# Altium integrated library Wuerth Elektronik SMD Power Choke.IntLib: 844 symbols (part 5 of 9)
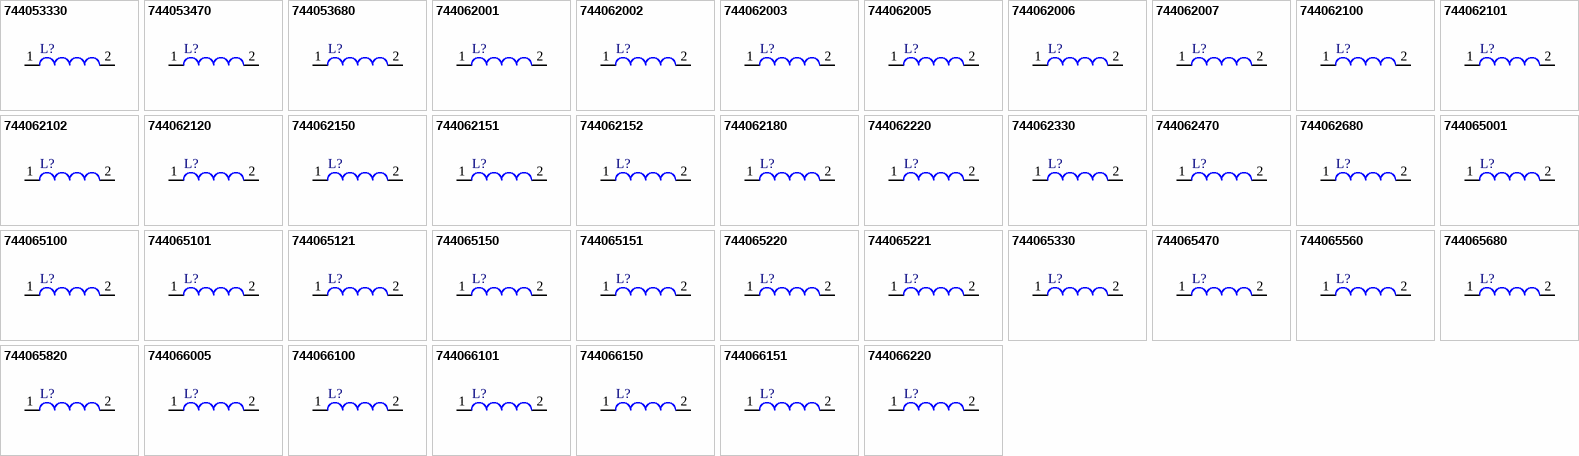
[diagram p26: symbols 744053330 to 744066220]

## 744065150
designator L?
SMD Shielded Tiny Power Inductor WE-TPC, L = 15.0 µH; Inductance: 15.0 µH; DatasheetVersion: ver 3, Nov-2008; PackageVersion: 2008; PackageReference: WE-TPC-1028-XL; PackageDescription: SMD Inductor, 2-Leads, Body 10.0 x 10.0 mm; ComponentLink1Description: Manufacturer URL; ComponentLink1URL: http://www.we-online.com; ComponentLink2Description: Datasheet; ComponentLink2URL: http://www.we-online.de/katalog/media/pdf/744065150.pdf
footprint WE-TPC-1028-XL (SMD Inductor, 2-Leads, Body 10.0x10.0x3.1 mm)
pins: 1, 2

## 744065151
designator L?
SMD Shielded Tiny Power Inductor WE-TPC, L = 150 µH; Inductance: 150 µH; DatasheetVersion: ver 3, Nov-2008; PackageVersion: 2008; PackageReference: WE-TPC-1028-XL; PackageDescription: SMD Inductor, 2-Leads, Body 10.0 x 10.0 mm; ComponentLink1Description: Manufacturer URL; ComponentLink1URL: http://www.we-online.com; ComponentLink2Description: Datasheet; ComponentLink2URL: http://www.we-online.de/katalog/media/pdf/744065151.pdf
footprint WE-TPC-1028-XL (SMD Inductor, 2-Leads, Body 10.0x10.0x3.1 mm)
pins: 1, 2

## 744065220
designator L?
SMD Shielded Tiny Power Inductor WE-TPC, L = 22.0 µH; Inductance: 22.0 µH; DatasheetVersion: ver 3, Nov-2008; PackageVersion: 2008; PackageReference: WE-TPC-1028-XL; PackageDescription: SMD Inductor, 2-Leads, Body 10.0 x 10.0 mm; ComponentLink1Description: Manufacturer URL; ComponentLink1URL: http://www.we-online.com; ComponentLink2Description: Datasheet; ComponentLink2URL: http://www.we-online.de/katalog/media/pdf/744065220.pdf
footprint WE-TPC-1028-XL (SMD Inductor, 2-Leads, Body 10.0x10.0x3.1 mm)
pins: 1, 2

## 744065221
designator L?
SMD Shielded Tiny Power Inductor WE-TPC, L = 220 µH; Inductance: 220 µH; DatasheetVersion: ver 3, Nov-2008; PackageVersion: 2008; PackageReference: WE-TPC-1028-XL; PackageDescription: SMD Inductor, 2-Leads, Body 10.0 x 10.0 mm; ComponentLink1Description: Manufacturer URL; ComponentLink1URL: http://www.we-online.com; ComponentLink2Description: Datasheet; ComponentLink2URL: http://www.we-online.de/katalog/media/pdf/744065221.pdf
footprint WE-TPC-1028-XL (SMD Inductor, 2-Leads, Body 10.0x10.0x3.1 mm)
pins: 1, 2

## 744065330
designator L?
SMD Shielded Tiny Power Inductor WE-TPC, L = 33.0 µH; Inductance: 33.0 µH; DatasheetVersion: ver 3, Nov-2008; PackageVersion: 2008; PackageReference: WE-TPC-1028-XL; PackageDescription: SMD Inductor, 2-Leads, Body 10.0 x 10.0 mm; ComponentLink1Description: Manufacturer URL; ComponentLink1URL: http://www.we-online.com; ComponentLink2Description: Datasheet; ComponentLink2URL: http://www.we-online.de/katalog/media/pdf/744065330.pdf
footprint WE-TPC-1028-XL (SMD Inductor, 2-Leads, Body 10.0x10.0x3.1 mm)
pins: 1, 2

## 744065470
designator L?
SMD Shielded Tiny Power Inductor WE-TPC, L = 47.0 µH; Inductance: 47.0 µH; DatasheetVersion: ver 3, Nov-2008; PackageVersion: 2008; PackageReference: WE-TPC-1028-XL; PackageDescription: SMD Inductor, 2-Leads, Body 10.0 x 10.0 mm; ComponentLink1Description: Manufacturer URL; ComponentLink1URL: http://www.we-online.com; ComponentLink2Description: Datasheet; ComponentLink2URL: http://www.we-online.de/katalog/media/pdf/744065470.pdf
footprint WE-TPC-1028-XL (SMD Inductor, 2-Leads, Body 10.0x10.0x3.1 mm)
pins: 1, 2

## 744065560
designator L?
SMD Shielded Tiny Power Inductor WE-TPC, L = 56.0 µH; Inductance: 56.0 µH; DatasheetVersion: ver 3, Nov-2008; PackageVersion: 2008; PackageReference: WE-TPC-1028-XL; PackageDescription: SMD Inductor, 2-Leads, Body 10.0 x 10.0 mm; ComponentLink1Description: Manufacturer URL; ComponentLink1URL: http://www.we-online.com; ComponentLink2Description: Datasheet; ComponentLink2URL: http://www.we-online.de/katalog/media/pdf/744065560.pdf
footprint WE-TPC-1028-XL (SMD Inductor, 2-Leads, Body 10.0x10.0x3.1 mm)
pins: 1, 2

## 744065680
designator L?
SMD Shielded Tiny Power Inductor WE-TPC, L = 68.0 µH; Inductance: 68.0 µH; DatasheetVersion: ver 3, Nov-2008; PackageVersion: 2008; PackageReference: WE-TPC-1028-XL; PackageDescription: SMD Inductor, 2-Leads, Body 10.0 x 10.0 mm; ComponentLink1Description: Manufacturer URL; ComponentLink1URL: http://www.we-online.com; ComponentLink2Description: Datasheet; ComponentLink2URL: http://www.we-online.de/katalog/media/pdf/744065680.pdf
footprint WE-TPC-1028-XL (SMD Inductor, 2-Leads, Body 10.0x10.0x3.1 mm)
pins: 1, 2

## 744065820
designator L?
SMD Shielded Tiny Power Inductor WE-TPC, L = 82.0 µH; Inductance: 82.0 µH; DatasheetVersion: ver 3, Nov-2008; PackageVersion: 2008; PackageReference: WE-TPC-1028-XL; PackageDescription: SMD Inductor, 2-Leads, Body 10.0 x 10.0 mm; ComponentLink1Description: Manufacturer URL; ComponentLink1URL: http://www.we-online.com; ComponentLink2Description: Datasheet; ComponentLink2URL: http://www.we-online.de/katalog/media/pdf/744065820.pdf
footprint WE-TPC-1028-XL (SMD Inductor, 2-Leads, Body 10.0x10.0x3.1 mm)
pins: 1, 2

## 744066005
designator L?
SMD Shielded Tiny Power Inductor WE-TPC, L = 5.00 µH; Inductance: 5.00 µH; DatasheetVersion: ver 4, Nov-2008; PackageVersion: 2008; PackageReference: WE-TPC-1038-XLH; PackageDescription: SMD Inductor, 2-Leads, Body 10.0 x 10.0 mm; ComponentLink1Description: Manufacturer URL; ComponentLink1URL: http://www.we-online.com; ComponentLink2Description: Datasheet; ComponentLink2URL: http://www.we-online.de/katalog/media/pdf/744066005.pdf
footprint WE-TPC-1038-XLH (SMD Inductor, 2-Leads, Body 10.0x10.0x4.1 mm)
pins: 1, 2

## 744066100
designator L?
SMD Shielded Tiny Power Inductor WE-TPC, L = 10.0 µH; Inductance: 10.0 µH; DatasheetVersion: ver 4, Nov-2008; PackageVersion: 2008; PackageReference: WE-TPC-1038-XLH; PackageDescription: SMD Inductor, 2-Leads, Body 10.0 x 10.0 mm; ComponentLink1Description: Manufacturer URL; ComponentLink1URL: http://www.we-online.com; ComponentLink2Description: Datasheet; ComponentLink2URL: http://www.we-online.de/katalog/media/pdf/744066100.pdf
footprint WE-TPC-1038-XLH (SMD Inductor, 2-Leads, Body 10.0x10.0x4.1 mm)
pins: 1, 2

## 744066101
designator L?
SMD Shielded Tiny Power Inductor WE-TPC, L = 100 µH; Inductance: 100 µH; DatasheetVersion: ver 4, Nov-2008; PackageVersion: 2008; PackageReference: WE-TPC-1038-XLH; PackageDescription: SMD Inductor, 2-Leads, Body 10.0 x 10.0 mm; ComponentLink1Description: Manufacturer URL; ComponentLink1URL: http://www.we-online.com; ComponentLink2Description: Datasheet; ComponentLink2URL: http://www.we-online.de/katalog/media/pdf/744066101.pdf
footprint WE-TPC-1038-XLH (SMD Inductor, 2-Leads, Body 10.0x10.0x4.1 mm)
pins: 1, 2

## 744066150
designator L?
SMD Shielded Tiny Power Inductor WE-TPC, L = 15.0 µH; Inductance: 15.0 µH; DatasheetVersion: ver 4, Nov-2008; PackageVersion: 2008; PackageReference: WE-TPC-1038-XLH; PackageDescription: SMD Inductor, 2-Leads, Body 10.0 x 10.0 mm; ComponentLink1Description: Manufacturer URL; ComponentLink1URL: http://www.we-online.com; ComponentLink2Description: Datasheet; ComponentLink2URL: http://www.we-online.de/katalog/media/pdf/744066150.pdf
footprint WE-TPC-1038-XLH (SMD Inductor, 2-Leads, Body 10.0x10.0x4.1 mm)
pins: 1, 2

## 744066151
designator L?
SMD Shielded Tiny Power Inductor WE-TPC, L = 150 µH; Inductance: 150 µH; DatasheetVersion: ver 4, Nov-2008; PackageVersion: 2008; PackageReference: WE-TPC-1038-XLH; PackageDescription: SMD Inductor, 2-Leads, Body 10.0 x 10.0 mm; ComponentLink1Description: Manufacturer URL; ComponentLink1URL: http://www.we-online.com; ComponentLink2Description: Datasheet; ComponentLink2URL: http://www.we-online.de/katalog/media/pdf/744066151.pdf
footprint WE-TPC-1038-XLH (SMD Inductor, 2-Leads, Body 10.0x10.0x4.1 mm)
pins: 1, 2

## 744066220
designator L?
SMD Shielded Tiny Power Inductor WE-TPC, L = 22.0 µH; Inductance: 22.0 µH; DatasheetVersion: ver 4, Nov-2008; PackageVersion: 2008; PackageReference: WE-TPC-1038-XLH; PackageDescription: SMD Inductor, 2-Leads, Body 10.0 x 10.0 mm; ComponentLink1Description: Manufacturer URL; ComponentLink1URL: http://www.we-online.com; ComponentLink2Description: Datasheet; ComponentLink2URL: http://www.we-online.de/katalog/media/pdf/744066220.pdf
footprint WE-TPC-1038-XLH (SMD Inductor, 2-Leads, Body 10.0x10.0x4.1 mm)
pins: 1, 2

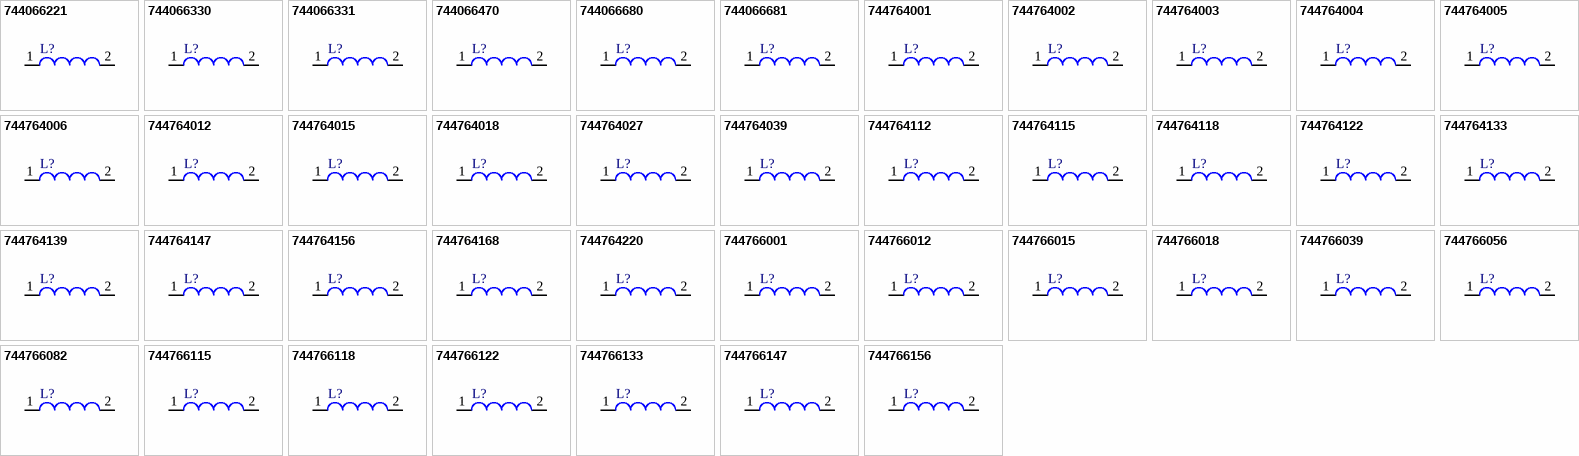
[diagram p10: symbols 744066221 to 744766156]

## 744066221
designator L?
SMD Shielded Tiny Power Inductor WE-TPC, L = 220 µH; Inductance: 220 µH; DatasheetVersion: ver 4, Nov-2008; PackageVersion: 2008; PackageReference: WE-TPC-1038-XLH; PackageDescription: SMD Inductor, 2-Leads, Body 10.0 x 10.0 mm; ComponentLink1Description: Manufacturer URL; ComponentLink1URL: http://www.we-online.com; ComponentLink2Description: Datasheet; ComponentLink2URL: http://www.we-online.de/katalog/media/pdf/744066221.pdf
footprint WE-TPC-1038-XLH (SMD Inductor, 2-Leads, Body 10.0x10.0x4.1 mm)
pins: 1, 2

## 744066330
designator L?
SMD Shielded Tiny Power Inductor WE-TPC, L = 33.0 µH; Inductance: 33.0 µH; DatasheetVersion: ver 4, Nov-2008; PackageVersion: 2008; PackageReference: WE-TPC-1038-XLH; PackageDescription: SMD Inductor, 2-Leads, Body 10.0 x 10.0 mm; ComponentLink1Description: Manufacturer URL; ComponentLink1URL: http://www.we-online.com; ComponentLink2Description: Datasheet; ComponentLink2URL: http://www.we-online.de/katalog/media/pdf/744066330.pdf
footprint WE-TPC-1038-XLH (SMD Inductor, 2-Leads, Body 10.0x10.0x4.1 mm)
pins: 1, 2

## 744066331
designator L?
SMD Shielded Tiny Power Inductor WE-TPC, L = 330 µH; Inductance: 330 µH; DatasheetVersion: ver 4, Nov-2008; PackageVersion: 2008; PackageReference: WE-TPC-1038-XLH; PackageDescription: SMD Inductor, 2-Leads, Body 10.0 x 10.0 mm; ComponentLink1Description: Manufacturer URL; ComponentLink1URL: http://www.we-online.com; ComponentLink2Description: Datasheet; ComponentLink2URL: http://www.we-online.de/katalog/media/pdf/744066331.pdf
footprint WE-TPC-1038-XLH (SMD Inductor, 2-Leads, Body 10.0x10.0x4.1 mm)
pins: 1, 2

## 744066470
designator L?
SMD Shielded Tiny Power Inductor WE-TPC, L = 47.0 µH; Inductance: 47.0 µH; DatasheetVersion: ver 4, Nov-2008; PackageVersion: 2008; PackageReference: WE-TPC-1038-XLH; PackageDescription: SMD Inductor, 2-Leads, Body 10.0 x 10.0 mm; ComponentLink1Description: Manufacturer URL; ComponentLink1URL: http://www.we-online.com; ComponentLink2Description: Datasheet; ComponentLink2URL: http://www.we-online.de/katalog/media/pdf/744066470.pdf
footprint WE-TPC-1038-XLH (SMD Inductor, 2-Leads, Body 10.0x10.0x4.1 mm)
pins: 1, 2

## 744066680
designator L?
SMD Shielded Tiny Power Inductor WE-TPC, L = 68.0 µH; Inductance: 68.0 µH; DatasheetVersion: ver 4, Nov-2008; PackageVersion: 2008; PackageReference: WE-TPC-1038-XLH; PackageDescription: SMD Inductor, 2-Leads, Body 10.0 x 10.0 mm; ComponentLink1Description: Manufacturer URL; ComponentLink1URL: http://www.we-online.com; ComponentLink2Description: Datasheet; ComponentLink2URL: http://www.we-online.de/katalog/media/pdf/744066680.pdf
footprint WE-TPC-1038-XLH (SMD Inductor, 2-Leads, Body 10.0x10.0x4.1 mm)
pins: 1, 2

## 744066681
designator L?
SMD Shielded Tiny Power Inductor WE-TPC, L = 680 µH; Inductance: 680 µH; DatasheetVersion: ver 4, Nov-2008; PackageVersion: 2008; PackageReference: WE-TPC-1038-XLH; PackageDescription: SMD Inductor, 2-Leads, Body 10.0 x 10.0 mm; ComponentLink1Description: Manufacturer URL; ComponentLink1URL: http://www.we-online.com; ComponentLink2Description: Datasheet; ComponentLink2URL: http://www.we-online.de/katalog/media/pdf/744066681.pdf
footprint WE-TPC-1038-XLH (SMD Inductor, 2-Leads, Body 10.0x10.0x4.1 mm)
pins: 1, 2

## 744764001
designator L?
SMD Wire Wound Inductor WE-GF, L = 0.10 µH; Inductance: 0.10 µH; DatasheetVersion: ver 4, Oct-2004; PackageVersion: 2004; PackageReference: WE-GF-M; PackageDescription: Molded Inductor, 2-Leads, Body 2.9 x 2.5 mm; ComponentLink1Description: Manufacturer URL; ComponentLink1URL: http://www.we-online.com; ComponentLink2Description: Datasheet; ComponentLink2URL: http://www.we-online.de/katalog/media/pdf/744764001.pdf
footprint WE-GF-M (Molded Inductor, 2-Leads, Body 2.9x2.5x2.4 mm)
pins: 1, 2

## 744764002
designator L?
SMD Wire Wound Inductor WE-GF, L = 0.22 µH; Inductance: 0.22 µH; DatasheetVersion: ver 4, Oct-2004; PackageVersion: 2004; PackageReference: WE-GF-M; PackageDescription: Molded Inductor, 2-Leads, Body 2.9 x 2.5 mm; ComponentLink1Description: Manufacturer URL; ComponentLink1URL: http://www.we-online.com; ComponentLink2Description: Datasheet; ComponentLink2URL: http://www.we-online.de/katalog/media/pdf/744764002.pdf
footprint WE-GF-M (Molded Inductor, 2-Leads, Body 2.9x2.5x2.4 mm)
pins: 1, 2

## 744764003
designator L?
SMD Wire Wound Inductor WE-GF, L = 0.39 µH; Inductance: 0.39 µH; DatasheetVersion: ver 4, Oct-2004; PackageVersion: 2004; PackageReference: WE-GF-M; PackageDescription: Molded Inductor, 2-Leads, Body 2.9 x 2.5 mm; ComponentLink1Description: Manufacturer URL; ComponentLink1URL: http://www.we-online.com; ComponentLink2Description: Datasheet; ComponentLink2URL: http://www.we-online.de/katalog/media/pdf/744764003.pdf
footprint WE-GF-M (Molded Inductor, 2-Leads, Body 2.9x2.5x2.4 mm)
pins: 1, 2

## 744764004
designator L?
SMD Wire Wound Inductor WE-GF, L = 0.47 µH; Inductance: 0.47 µH; DatasheetVersion: ver 4, Oct-2004; PackageVersion: 2004; PackageReference: WE-GF-M; PackageDescription: Molded Inductor, 2-Leads, Body 2.9 x 2.5 mm; ComponentLink1Description: Manufacturer URL; ComponentLink1URL: http://www.we-online.com; ComponentLink2Description: Datasheet; ComponentLink2URL: http://www.we-online.de/katalog/media/pdf/744764004.pdf
footprint WE-GF-M (Molded Inductor, 2-Leads, Body 2.9x2.5x2.4 mm)
pins: 1, 2

## 744764005
designator L?
SMD Wire Wound Inductor WE-GF, L = 0.56 µH; Inductance: 0.56 µH; DatasheetVersion: ver 4, Oct-2004; PackageVersion: 2004; PackageReference: WE-GF-M; PackageDescription: Molded Inductor, 2-Leads, Body 2.9 x 2.5 mm; ComponentLink1Description: Manufacturer URL; ComponentLink1URL: http://www.we-online.com; ComponentLink2Description: Datasheet; ComponentLink2URL: http://www.we-online.de/katalog/media/pdf/744764005.pdf
footprint WE-GF-M (Molded Inductor, 2-Leads, Body 2.9x2.5x2.4 mm)
pins: 1, 2

## 744764006
designator L?
SMD Wire Wound Inductor WE-GF, L = 0.68 µH; Inductance: 0.68 µH; DatasheetVersion: ver 4, Oct-2004; PackageVersion: 2004; PackageReference: WE-GF-M; PackageDescription: Molded Inductor, 2-Leads, Body 2.9 x 2.5 mm; ComponentLink1Description: Manufacturer URL; ComponentLink1URL: http://www.we-online.com; ComponentLink2Description: Datasheet; ComponentLink2URL: http://www.we-online.de/katalog/media/pdf/744764006.pdf
footprint WE-GF-M (Molded Inductor, 2-Leads, Body 2.9x2.5x2.4 mm)
pins: 1, 2

## 744764012
designator L?
SMD Wire Wound Inductor WE-GF, L = 1.20 µH; Inductance: 1.20µH; DatasheetVersion: ver 4, Oct-2004; PackageVersion: 2004; PackageReference: WE-GF-M; PackageDescription: Molded Inductor, 2-Leads, Body 2.9 x 2.5 mm; ComponentLink1Description: Manufacturer URL; ComponentLink1URL: http://www.we-online.com; ComponentLink2Description: Datasheet; ComponentLink2URL: http://www.we-online.de/katalog/media/pdf/744764012.pdf
footprint WE-GF-M (Molded Inductor, 2-Leads, Body 2.9x2.5x2.4 mm)
pins: 1, 2

## 744764015
designator L?
SMD Wire Wound Inductor WE-GF, L = 1.50 µH; Inductance: 1.50 µH; DatasheetVersion: ver 4, Oct-2004; PackageVersion: 2004; PackageReference: WE-GF-M; PackageDescription: Molded Inductor, 2-Leads, Body 2.9 x 2.5 mm; ComponentLink1Description: Manufacturer URL; ComponentLink1URL: http://www.we-online.com; ComponentLink2Description: Datasheet; ComponentLink2URL: http://www.we-online.de/katalog/media/pdf/744764015.pdf
footprint WE-GF-M (Molded Inductor, 2-Leads, Body 2.9x2.5x2.4 mm)
pins: 1, 2

## 744764018
designator L?
SMD Wire Wound Inductor WE-GF, L = 1.80 µH; Inductance: 1.80 µH; DatasheetVersion: ver 4, Oct-2004; PackageVersion: 2004; PackageReference: WE-GF-M; PackageDescription: Molded Inductor, 2-Leads, Body 2.9 x 2.5 mm; ComponentLink1Description: Manufacturer URL; ComponentLink1URL: http://www.we-online.com; ComponentLink2Description: Datasheet; ComponentLink2URL: http://www.we-online.de/katalog/media/pdf/744764018.pdf
footprint WE-GF-M (Molded Inductor, 2-Leads, Body 2.9x2.5x2.4 mm)
pins: 1, 2

## 744764027
designator L?
SMD Wire Wound Inductor WE-GF, L = 2.70 µH; Inductance: 2.70 µH; DatasheetVersion: ver 4, Oct-2004; PackageVersion: 2004; PackageReference: WE-GF-M; PackageDescription: Molded Inductor, 2-Leads, Body 2.9 x 2.5 mm; ComponentLink1Description: Manufacturer URL; ComponentLink1URL: http://www.we-online.com; ComponentLink2Description: Datasheet; ComponentLink2URL: http://www.we-online.de/katalog/media/pdf/744764027.pdf
footprint WE-GF-M (Molded Inductor, 2-Leads, Body 2.9x2.5x2.4 mm)
pins: 1, 2

## 744764039
designator L?
SMD Wire Wound Inductor WE-GF, L = 3.90 µH; Inductance: 3.90 µH; DatasheetVersion: ver 4, Oct-2004; PackageVersion: 2004; PackageReference: WE-GF-M; PackageDescription: Molded Inductor, 2-Leads, Body 2.9 x 2.5 mm; ComponentLink1Description: Manufacturer URL; ComponentLink1URL: http://www.we-online.com; ComponentLink2Description: Datasheet; ComponentLink2URL: http://www.we-online.de/katalog/media/pdf/744764039.pdf
footprint WE-GF-M (Molded Inductor, 2-Leads, Body 2.9x2.5x2.4 mm)
pins: 1, 2

## 744764112
designator L?
SMD Wire Wound Inductor WE-GF, L = 12.00 µH; DatasheetVersion: ver 4, Oct-2004; PackageVersion: 2004; PackageReference: WE-GF-M; PackageDescription: Molded Inductor, 2-Leads, Body 2.9 x 2.5 mm; Inductance: 12.00 µH; ComponentLink1Description: Manufacturer URL; ComponentLink1URL: http://www.we-online.com; ComponentLink2Description: Datasheet; ComponentLink2URL: http://www.we-online.de/katalog/media/pdf/744764112.pdf
footprint WE-GF-M (Molded Inductor, 2-Leads, Body 2.9x2.5x2.4 mm)
pins: 1, 2

## 744764115
designator L?
SMD Wire Wound Inductor WE-GF, L = 15.00 µH; DatasheetVersion: ver 4, Oct-2004; PackageVersion: 2004; PackageReference: WE-GF-M; PackageDescription: Molded Inductor, 2-Leads, Body 2.9 x 2.5 mm; Inductance: 15.00 µH; ComponentLink1Description: Manufacturer URL; ComponentLink1URL: http://www.we-online.com; ComponentLink2Description: Datasheet; ComponentLink2URL: http://www.we-online.de/katalog/media/pdf/744764115.pdf
footprint WE-GF-M (Molded Inductor, 2-Leads, Body 2.9x2.5x2.4 mm)
pins: 1, 2

## 744764118
designator L?
SMD Wire Wound Inductor WE-GF, L = 18.00 µH; DatasheetVersion: ver 4, Oct-2004; PackageVersion: 2004; PackageReference: WE-GF-M; PackageDescription: Molded Inductor, 2-Leads, Body 2.9 x 2.5 mm; Inductance: 18.00 µH; ComponentLink1Description: Manufacturer URL; ComponentLink1URL: http://www.we-online.com; ComponentLink2Description: Datasheet; ComponentLink2URL: http://www.we-online.de/katalog/media/pdf/744764118.pdf
footprint WE-GF-M (Molded Inductor, 2-Leads, Body 2.9x2.5x2.4 mm)
pins: 1, 2

## 744764122
designator L?
SMD Wire Wound Inductor WE-GF, L = 22.00 µH; DatasheetVersion: ver 4, Oct-2004; PackageVersion: 2004; PackageReference: WE-GF-M; PackageDescription: Molded Inductor, 2-Leads, Body 2.9 x 2.5 mm; Inductance: 22.00 µH; ComponentLink1Description: Manufacturer URL; ComponentLink1URL: http://www.we-online.com; ComponentLink2Description: Datasheet; ComponentLink2URL: http://www.we-online.de/katalog/media/pdf/744764122.pdf
footprint WE-GF-M (Molded Inductor, 2-Leads, Body 2.9x2.5x2.4 mm)
pins: 1, 2

## 744764133
designator L?
SMD Wire Wound Inductor WE-GF, L = 33.00 µH; DatasheetVersion: ver 4, Oct-2004; PackageVersion: 2004; PackageReference: WE-GF-M; PackageDescription: Molded Inductor, 2-Leads, Body 2.9 x 2.5 mm; Inductance: 33.00 µH; ComponentLink1Description: Manufacturer URL; ComponentLink1URL: http://www.we-online.com; ComponentLink2Description: Datasheet; ComponentLink2URL: http://www.we-online.de/katalog/media/pdf/744764133.pdf
footprint WE-GF-M (Molded Inductor, 2-Leads, Body 2.9x2.5x2.4 mm)
pins: 1, 2

## 744764139
designator L?
SMD Wire Wound Inductor WE-GF, L = 39.00 µH; DatasheetVersion: ver 4, Oct-2004; PackageVersion: 2004; PackageReference: WE-GF-M; PackageDescription: Molded Inductor, 2-Leads, Body 2.9 x 2.5 mm; Inductance: 39.00 µH; ComponentLink1Description: Manufacturer URL; ComponentLink1URL: http://www.we-online.com; ComponentLink2Description: Datasheet; ComponentLink2URL: http://www.we-online.de/katalog/media/pdf/744764139.pdf
footprint WE-GF-M (Molded Inductor, 2-Leads, Body 2.9x2.5x2.4 mm)
pins: 1, 2

## 744764147
designator L?
SMD Wire Wound Inductor WE-GF, L = 47.00 µH; DatasheetVersion: ver 4, Oct-2004; PackageVersion: 2004; PackageReference: WE-GF-M; PackageDescription: Molded Inductor, 2-Leads, Body 2.9 x 2.5 mm; Inductance: 47.00 µH; ComponentLink1Description: Manufacturer URL; ComponentLink1URL: http://www.we-online.com; ComponentLink2Description: Datasheet; ComponentLink2URL: http://www.we-online.de/katalog/media/pdf/744764147.pdf
footprint WE-GF-M (Molded Inductor, 2-Leads, Body 2.9x2.5x2.4 mm)
pins: 1, 2

## 744764156
designator L?
SMD Wire Wound Inductor WE-GF, L = 56.00 µH; DatasheetVersion: ver 4, Oct-2004; PackageVersion: 2004; PackageReference: WE-GF-M; PackageDescription: Molded Inductor, 2-Leads, Body 2.9 x 2.5 mm; Inductance: 56.00 µH; ComponentLink1Description: Manufacturer URL; ComponentLink1URL: http://www.we-online.com; ComponentLink2Description: Datasheet; ComponentLink2URL: http://www.we-online.de/katalog/media/pdf/744764156.pdf
footprint WE-GF-M (Molded Inductor, 2-Leads, Body 2.9x2.5x2.4 mm)
pins: 1, 2

## 744764168
designator L?
SMD Wire Wound Inductor WE-GF, L = 68.00 µH; DatasheetVersion: ver 4, Oct-2004; PackageVersion: 2004; PackageReference: WE-GF-M; PackageDescription: Molded Inductor, 2-Leads, Body 2.9 x 2.5 mm; Inductance: 68.00 µH; ComponentLink1Description: Manufacturer URL; ComponentLink1URL: http://www.we-online.com; ComponentLink2Description: Datasheet; ComponentLink2URL: http://www.we-online.de/katalog/media/pdf/744764168.pdf
footprint WE-GF-M (Molded Inductor, 2-Leads, Body 2.9x2.5x2.4 mm)
pins: 1, 2

## 744764220
designator L?
SMD Wire Wound Inductor WE-GF, L = 220.00 µH; Inductance: 100.00 µH; DatasheetVersion: ver 4, Oct-2004; PackageVersion: 2004; PackageReference: WE-GF-M; PackageDescription: Molded Inductor, 2-Leads, Body 2.9 x 2.5 mm; ComponentLink1Description: Manufacturer URL; ComponentLink1URL: http://www.we-online.com; ComponentLink2Description: Datasheet; ComponentLink2URL: http://www.we-online.de/katalog/media/pdf/744764220.pdf
footprint WE-GF-M (Molded Inductor, 2-Leads, Body 2.9x2.5x2.4 mm)
pins: 1, 2

## 744766001
designator L?
SMD Wire Wound Inductor WE-GF, L = 0.10 µH; Inductance: 0.10 µH; DatasheetVersion: ver 4, Oct-2004; PackageVersion: 2004; PackageReference: WE-GF-L; PackageDescription: Molded Inductor, 2-Leads, Body 4.2 x 3.2 mm; ComponentLink1Description: Manufacturer URL; ComponentLink1URL: http://www.we-online.com; ComponentLink2Description: Datasheet; ComponentLink2URL: http://www.we-online.de/katalog/media/pdf/744766001.pdf
footprint WE-GF-L (Molded Inductor, 2-Leads, Body 4.2x3.2x3.6 mm)
pins: 1, 2

## 744766012
designator L?
SMD Wire Wound Inductor WE-GF, L = 1.20 µH; Inductance: 1.20 µH; DatasheetVersion: ver 4, Oct-2004; PackageVersion: 2004; PackageReference: WE-GF-L; PackageDescription: Molded Inductor, 2-Leads, Body 4.2 x 3.2 mm; ComponentLink1Description: Manufacturer URL; ComponentLink1URL: http://www.we-online.com; ComponentLink2Description: Datasheet; ComponentLink2URL: http://www.we-online.de/katalog/media/pdf/744766012.pdf
footprint WE-GF-L (Molded Inductor, 2-Leads, Body 4.2x3.2x3.6 mm)
pins: 1, 2

## 744766015
designator L?
SMD Wire Wound Inductor WE-GF, L = 1.50 µH; Inductance: 1.50 µH; DatasheetVersion: ver 4, Oct-2004; PackageVersion: 2004; PackageReference: WE-GF-L; PackageDescription: Molded Inductor, 2-Leads, Body 4.2 x 3.2 mm; ComponentLink1Description: Manufacturer URL; ComponentLink1URL: http://www.we-online.com; ComponentLink2Description: Datasheet; ComponentLink2URL: http://www.we-online.de/katalog/media/pdf/744766015.pdf
footprint WE-GF-L (Molded Inductor, 2-Leads, Body 4.2x3.2x3.6 mm)
pins: 1, 2

## 744766018
designator L?
SMD Wire Wound Inductor WE-GF, L = 1.80 µH; Inductance: 1.80 µH; DatasheetVersion: ver 4, Oct-2004; PackageVersion: 2004; PackageReference: WE-GF-L; PackageDescription: Molded Inductor, 2-Leads, Body 4.2 x 3.2 mm; ComponentLink1Description: Manufacturer URL; ComponentLink1URL: http://www.we-online.com; ComponentLink2Description: Datasheet; ComponentLink2URL: http://www.we-online.de/katalog/media/pdf/744766018.pdf
footprint WE-GF-L (Molded Inductor, 2-Leads, Body 4.2x3.2x3.6 mm)
pins: 1, 2

## 744766039
designator L?
SMD Wire Wound Inductor WE-GF, L = 3.90 µH; Inductance: 3.90 µH; DatasheetVersion: ver 4, Oct-2004; PackageVersion: 2004; PackageReference: WE-GF-L; PackageDescription: Molded Inductor, 2-Leads, Body 4.2 x 3.2 mm; ComponentLink1Description: Manufacturer URL; ComponentLink1URL: http://www.we-online.com; ComponentLink2Description: Datasheet; ComponentLink2URL: http://www.we-online.de/katalog/media/pdf/744766039.pdf
footprint WE-GF-L (Molded Inductor, 2-Leads, Body 4.2x3.2x3.6 mm)
pins: 1, 2

## 744766056
designator L?
SMD Wire Wound Inductor WE-GF, L = 5.60 µH; Inductance: 5.60 µH; DatasheetVersion: ver 4, Oct-2004; PackageVersion: 2004; PackageReference: WE-GF-L; PackageDescription: Molded Inductor, 2-Leads, Body 4.2 x 3.2 mm; ComponentLink1Description: Manufacturer URL; ComponentLink1URL: http://www.we-online.com; ComponentLink2Description: Datasheet; ComponentLink2URL: http://www.we-online.de/katalog/media/pdf/744766056.pdf
footprint WE-GF-L (Molded Inductor, 2-Leads, Body 4.2x3.2x3.6 mm)
pins: 1, 2

## 744766082
designator L?
SMD Wire Wound Inductor WE-GF, L = 8.20 µH; Inductance: 8.20 µH; DatasheetVersion: ver 4, Oct-2004; PackageVersion: 2004; PackageReference: WE-GF-L; PackageDescription: Molded Inductor, 2-Leads, Body 4.2 x 3.2 mm; ComponentLink1Description: Manufacturer URL; ComponentLink1URL: http://www.we-online.com; ComponentLink2Description: Datasheet; ComponentLink2URL: http://www.we-online.de/katalog/media/pdf/744766082.pdf
footprint WE-GF-L (Molded Inductor, 2-Leads, Body 4.2x3.2x3.6 mm)
pins: 1, 2

## 744766115
designator L?
SMD Wire Wound Inductor WE-GF, L = 15.0 µH; Inductance: 15.0 µH; DatasheetVersion: ver 4, Oct-2004; PackageVersion: 2004; PackageReference: WE-GF-L; PackageDescription: Molded Inductor, 2-Leads, Body 4.2 x 3.2 mm; ComponentLink1Description: Manufacturer URL; ComponentLink1URL: http://www.we-online.com; ComponentLink2Description: Datasheet; ComponentLink2URL: http://www.we-online.de/katalog/media/pdf/744766115.pdf
footprint WE-GF-L (Molded Inductor, 2-Leads, Body 4.2x3.2x3.6 mm)
pins: 1, 2

## 744766118
designator L?
SMD Wire Wound Inductor WE-GF, L = 18.0 µH; Inductance: 18.0 µH; DatasheetVersion: ver 4, Oct-2004; PackageVersion: 2004; PackageReference: WE-GF-L; PackageDescription: Molded Inductor, 2-Leads, Body 4.2 x 3.2 mm; ComponentLink1Description: Manufacturer URL; ComponentLink1URL: http://www.we-online.com; ComponentLink2Description: Datasheet; ComponentLink2URL: http://www.we-online.de/katalog/media/pdf/744766118.pdf
footprint WE-GF-L (Molded Inductor, 2-Leads, Body 4.2x3.2x3.6 mm)
pins: 1, 2

## 744766122
designator L?
SMD Wire Wound Inductor WE-GF, L = 22.0 µH; Inductance: 22.0 µH; DatasheetVersion: ver 4, Oct-2004; PackageVersion: 2004; PackageReference: WE-GF-L; PackageDescription: Molded Inductor, 2-Leads, Body 4.2 x 3.2 mm; ComponentLink1Description: Manufacturer URL; ComponentLink1URL: http://www.we-online.com; ComponentLink2Description: Datasheet; ComponentLink2URL: http://www.we-online.de/katalog/media/pdf/744766122.pdf
footprint WE-GF-L (Molded Inductor, 2-Leads, Body 4.2x3.2x3.6 mm)
pins: 1, 2

## 744766133
designator L?
SMD Wire Wound Inductor WE-GF, L = 33.0 µH; Inductance: 33.0 µH; DatasheetVersion: ver 4, Oct-2004; PackageVersion: 2004; PackageReference: WE-GF-L; PackageDescription: Molded Inductor, 2-Leads, Body 4.2 x 3.2 mm; ComponentLink1Description: Manufacturer URL; ComponentLink1URL: http://www.we-online.com; ComponentLink2Description: Datasheet; ComponentLink2URL: http://www.we-online.de/katalog/media/pdf/744766133.pdf
footprint WE-GF-L (Molded Inductor, 2-Leads, Body 4.2x3.2x3.6 mm)
pins: 1, 2

## 744766147
designator L?
SMD Wire Wound Inductor WE-GF, L = 47.0 µH; Inductance: 47.0 µH; DatasheetVersion: ver 4, Oct-2004; PackageVersion: 2004; PackageReference: WE-GF-L; PackageDescription: Molded Inductor, 2-Leads, Body 4.2 x 3.2 mm; ComponentLink1Description: Manufacturer URL; ComponentLink1URL: http://www.we-online.com; ComponentLink2Description: Datasheet; ComponentLink2URL: http://www.we-online.de/katalog/media/pdf/744766147.pdf
footprint WE-GF-L (Molded Inductor, 2-Leads, Body 4.2x3.2x3.6 mm)
pins: 1, 2

## 744766156
designator L?
SMD Wire Wound Inductor WE-GF, L = 56.0 µH; Inductance: 56.0 µH; DatasheetVersion: ver 4, Oct-2004; PackageVersion: 2004; PackageReference: WE-GF-L; PackageDescription: Molded Inductor, 2-Leads, Body 4.2 x 3.2 mm; ComponentLink1Description: Manufacturer URL; ComponentLink1URL: http://www.we-online.com; ComponentLink2Description: Datasheet; ComponentLink2URL: http://www.we-online.de/katalog/media/pdf/744766156.pdf
footprint WE-GF-L (Molded Inductor, 2-Leads, Body 4.2x3.2x3.6 mm)
pins: 1, 2

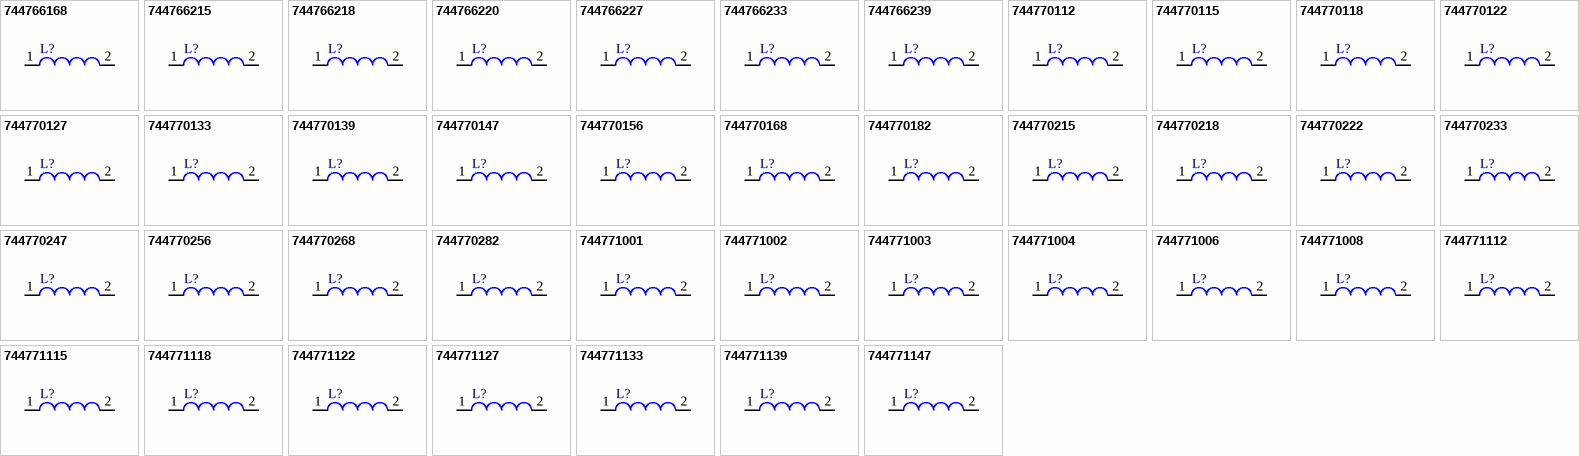
[diagram p11: symbols 744766168 to 744771147]

## 744766168
designator L?
SMD Wire Wound Inductor WE-GF, L = 68.0 µH; Inductance: 68.0 µH; DatasheetVersion: ver 4, Oct-2004; PackageVersion: 2004; PackageReference: WE-GF-L; PackageDescription: Molded Inductor, 2-Leads, Body 4.2 x 3.2 mm; ComponentLink1Description: Manufacturer URL; ComponentLink1URL: http://www.we-online.com; ComponentLink2Description: Datasheet; ComponentLink2URL: http://www.we-online.de/katalog/media/pdf/744766168.pdf
footprint WE-GF-L (Molded Inductor, 2-Leads, Body 4.2x3.2x3.6 mm)
pins: 1, 2

## 744766215
designator L?
SMD Wire Wound Inductor WE-GF, L = 150.0 µH; DatasheetVersion: ver 4, Oct-2004; PackageVersion: 2004; PackageReference: WE-GF-L; PackageDescription: Molded Inductor, 2-Leads, Body 4.2 x 3.2 mm; Inductance: 150.0 µH; ComponentLink1Description: Manufacturer URL; ComponentLink1URL: http://www.we-online.com; ComponentLink2Description: Datasheet; ComponentLink2URL: http://www.we-online.de/katalog/media/pdf/744766215.pdf
footprint WE-GF-L (Molded Inductor, 2-Leads, Body 4.2x3.2x3.6 mm)
pins: 1, 2

## 744766218
designator L?
SMD Wire Wound Inductor WE-GF, L = 180.0 µH; DatasheetVersion: ver 4, Oct-2004; PackageVersion: 2004; PackageReference: WE-GF-L; PackageDescription: Molded Inductor, 2-Leads, Body 4.2 x 3.2 mm; Inductance: 180.0 µH; ComponentLink1Description: Manufacturer URL; ComponentLink1URL: http://www.we-online.com; ComponentLink2Description: Datasheet; ComponentLink2URL: http://www.we-online.de/katalog/media/pdf/744766218.pdf
footprint WE-GF-L (Molded Inductor, 2-Leads, Body 4.2x3.2x3.6 mm)
pins: 1, 2

## 744766220
designator L?
SMD Wire Wound Inductor WE-GF, L = 220.0 µH; DatasheetVersion: ver 4, Oct-2004; PackageVersion: 2004; PackageReference: WE-GF-L; PackageDescription: Molded Inductor, 2-Leads, Body 4.2 x 3.2 mm; Inductance: 220.0 µH; ComponentLink1Description: Manufacturer URL; ComponentLink1URL: http://www.we-online.com; ComponentLink2Description: Datasheet; ComponentLink2URL: http://www.we-online.de/katalog/media/pdf/744766220.pdf
footprint WE-GF-L (Molded Inductor, 2-Leads, Body 4.2x3.2x3.6 mm)
pins: 1, 2

## 744766227
designator L?
SMD Wire Wound Inductor WE-GF, L = 270.0 µH; DatasheetVersion: ver 4, Oct-2004; PackageVersion: 2004; PackageReference: WE-GF-L; PackageDescription: Molded Inductor, 2-Leads, Body 4.2 x 3.2 mm; Inductance: 270.0 µH; ComponentLink1Description: Manufacturer URL; ComponentLink1URL: http://www.we-online.com; ComponentLink2Description: Datasheet; ComponentLink2URL: http://www.we-online.de/katalog/media/pdf/744766227.pdf
footprint WE-GF-L (Molded Inductor, 2-Leads, Body 4.2x3.2x3.6 mm)
pins: 1, 2

## 744766233
designator L?
SMD Wire Wound Inductor WE-GF, L = 330.0 µH; DatasheetVersion: ver 4, Oct-2004; PackageVersion: 2004; PackageReference: WE-GF-L; PackageDescription: Molded Inductor, 2-Leads, Body 4.2 x 3.2 mm; Inductance: 330.0 µH; ComponentLink1Description: Manufacturer URL; ComponentLink1URL: http://www.we-online.com; ComponentLink2Description: Datasheet; ComponentLink2URL: http://www.we-online.de/katalog/media/pdf/744766233.pdf
footprint WE-GF-L (Molded Inductor, 2-Leads, Body 4.2x3.2x3.6 mm)
pins: 1, 2

## 744766239
designator L?
SMD Wire Wound Inductor WE-GF, L = 390.0 µH; DatasheetVersion: ver 4, Oct-2004; PackageVersion: 2004; PackageReference: WE-GF-L; PackageDescription: Molded Inductor, 2-Leads, Body 4.2 x 3.2 mm; Inductance: 390.0 µH; ComponentLink1Description: Manufacturer URL; ComponentLink1URL: http://www.we-online.com; ComponentLink2Description: Datasheet; ComponentLink2URL: http://www.we-online.de/katalog/media/pdf/744766239.pdf
footprint WE-GF-L (Molded Inductor, 2-Leads, Body 4.2x3.2x3.6 mm)
pins: 1, 2

## 744770112
designator L?
SMD-Shielded Power Inductor WE-PD, L = 12.0 µH; Inductance: 12.0 µH; DatasheetVersion: ver 5, Oct-2004; PackageVersion: 2004; PackageReference: WE-PD-XL; PackageDescription: SMD Inductor, 2-Leads, Body 12.0 x 12.0 mm; ComponentLink1Description: Manufacturer URL; ComponentLink1URL: http://www.we-online.com; ComponentLink2Description: Datasheet; ComponentLink2URL: http://www.we-online.de/katalog/media/pdf/744770112.pdf
footprint WE-PD-XL (SMD Inductor, 2-Leads, Body 12.0x12.0x8.0 mm)
pins: 1, 2

## 744770115
designator L?
SMD-Shielded Power Inductor WE-PD, L = 15.0 µH; Inductance: 15.0 µH; DatasheetVersion: ver 5, Oct-2004; PackageVersion: 2004; PackageReference: WE-PD-XL; PackageDescription: SMD Inductor, 2-Leads, Body 12.0 x 12.0 mm; ComponentLink1Description: Manufacturer URL; ComponentLink1URL: http://www.we-online.com; ComponentLink2Description: Datasheet; ComponentLink2URL: http://www.we-online.de/katalog/media/pdf/744770115.pdf
footprint WE-PD-XL (SMD Inductor, 2-Leads, Body 12.0x12.0x8.0 mm)
pins: 1, 2

## 744770118
designator L?
SMD-Shielded Power Inductor WE-PD, L = 18.0 µH; Inductance: 18.0 µH; DatasheetVersion: ver 5, Oct-2004; PackageVersion: 2004; PackageReference: WE-PD-XL; PackageDescription: SMD Inductor, 2-Leads, Body 12.0 x 12.0 mm; ComponentLink1Description: Manufacturer URL; ComponentLink1URL: http://www.we-online.com; ComponentLink2Description: Datasheet; ComponentLink2URL: http://www.we-online.de/katalog/media/pdf/744770118.pdf
footprint WE-PD-XL (SMD Inductor, 2-Leads, Body 12.0x12.0x8.0 mm)
pins: 1, 2

## 744770122
designator L?
SMD-Shielded Power Inductor WE-PD, L = 22.0 µH; Inductance: 22.0 µH; DatasheetVersion: ver 5, Oct-2004; PackageVersion: 2004; PackageReference: WE-PD-XL; PackageDescription: SMD Inductor, 2-Leads, Body 12.0 x 12.0 mm; ComponentLink1Description: Manufacturer URL; ComponentLink1URL: http://www.we-online.com; ComponentLink2Description: Datasheet; ComponentLink2URL: http://www.we-online.de/katalog/media/pdf/744770122.pdf
footprint WE-PD-XL (SMD Inductor, 2-Leads, Body 12.0x12.0x8.0 mm)
pins: 1, 2

## 744770127
designator L?
SMD-Shielded Power Inductor WE-PD, L = 27.0 µH; Inductance: 27.0 µH; DatasheetVersion: ver 5, Oct-2004; PackageVersion: 2004; PackageReference: WE-PD-XL; PackageDescription: SMD Inductor, 2-Leads, Body 12.0 x 12.0 mm; ComponentLink1Description: Manufacturer URL; ComponentLink1URL: http://www.we-online.com; ComponentLink2Description: Datasheet; ComponentLink2URL: http://www.we-online.de/katalog/media/pdf/744770127.pdf
footprint WE-PD-XL (SMD Inductor, 2-Leads, Body 12.0x12.0x8.0 mm)
pins: 1, 2

## 744770133
designator L?
SMD-Shielded Power Inductor WE-PD, L = 33.0 µH; Inductance: 33.0 µH; DatasheetVersion: ver 5, Oct-2004; PackageVersion: 2004; PackageReference: WE-PD-XL; PackageDescription: SMD Inductor, 2-Leads, Body 12.0 x 12.0 mm; ComponentLink1Description: Manufacturer URL; ComponentLink1URL: http://www.we-online.com; ComponentLink2Description: Datasheet; ComponentLink2URL: http://www.we-online.de/katalog/media/pdf/744770133.pdf
footprint WE-PD-XL (SMD Inductor, 2-Leads, Body 12.0x12.0x8.0 mm)
pins: 1, 2

## 744770139
designator L?
SMD-Shielded Power Inductor WE-PD, L = 39.0 µH; Inductance: 39.0 µH; DatasheetVersion: ver 5, Oct-2004; PackageVersion: 2004; PackageReference: WE-PD-XL; PackageDescription: SMD Inductor, 2-Leads, Body 12.0 x 12.0 mm; ComponentLink1Description: Manufacturer URL; ComponentLink1URL: http://www.we-online.com; ComponentLink2Description: Datasheet; ComponentLink2URL: http://www.we-online.de/katalog/media/pdf/744770139.pdf
footprint WE-PD-XL (SMD Inductor, 2-Leads, Body 12.0x12.0x8.0 mm)
pins: 1, 2

## 744770147
designator L?
SMD-Shielded Power Inductor WE-PD, L = 47.0 µH; Inductance: 47.0 µH; DatasheetVersion: ver 5, Oct-2004; PackageVersion: 2004; PackageReference: WE-PD-XL; PackageDescription: SMD Inductor, 2-Leads, Body 12.0 x 12.0 mm; ComponentLink1Description: Manufacturer URL; ComponentLink1URL: http://www.we-online.com; ComponentLink2Description: Datasheet; ComponentLink2URL: http://www.we-online.de/katalog/media/pdf/744770147.pdf
footprint WE-PD-XL (SMD Inductor, 2-Leads, Body 12.0x12.0x8.0 mm)
pins: 1, 2

## 744770156
designator L?
SMD-Shielded Power Inductor WE-PD, L = 56.0 µH; Inductance: 56.0 µH; DatasheetVersion: ver 5, Oct-2004; PackageVersion: 2004; PackageReference: WE-PD-XL; PackageDescription: SMD Inductor, 2-Leads, Body 12.0 x 12.0 mm; ComponentLink1Description: Manufacturer URL; ComponentLink1URL: http://www.we-online.com; ComponentLink2Description: Datasheet; ComponentLink2URL: http://www.we-online.de/katalog/media/pdf/744770156.pdf
footprint WE-PD-XL (SMD Inductor, 2-Leads, Body 12.0x12.0x8.0 mm)
pins: 1, 2

## 744770168
designator L?
SMD-Shielded Power Inductor WE-PD, L = 68.0 µH; Inductance: 68.0 µH; DatasheetVersion: ver 5, Oct-2004; PackageVersion: 2004; PackageReference: WE-PD-XL; PackageDescription: SMD Inductor, 2-Leads, Body 12.0 x 12.0 mm; ComponentLink1Description: Manufacturer URL; ComponentLink1URL: http://www.we-online.com; ComponentLink2Description: Datasheet; ComponentLink2URL: http://www.we-online.de/katalog/media/pdf/744770168.pdf
footprint WE-PD-XL (SMD Inductor, 2-Leads, Body 12.0x12.0x8.0 mm)
pins: 1, 2

## 744770182
designator L?
SMD-Shielded Power Inductor WE-PD, L = 82.0 µH; Inductance: 82.0 µH; DatasheetVersion: ver 6, Sep-2006; PackageVersion: 2004; PackageReference: WE-PD-XL; PackageDescription: SMD Inductor, 2-Leads, Body 12.0 x 12.0 mm; ComponentLink1Description: Manufacturer URL; ComponentLink1URL: http://www.we-online.com; ComponentLink2Description: Datasheet; ComponentLink2URL: http://www.we-online.de/katalog/media/pdf/744770182.pdf
footprint WE-PD-XL (SMD Inductor, 2-Leads, Body 12.0x12.0x8.0 mm)
pins: 1, 2

## 744770215
designator L?
SMD-Shielded Power Inductor WE-PD, L = 150 µH; Inductance: 150 µH; DatasheetVersion: ver 1, Jan-2006; PackageVersion: 2004; PackageReference: WE-PD-XL; PackageDescription: SMD Inductor, 2-Leads, Body 12.0 x 12.0 mm; ComponentLink1Description: Manufacturer URL; ComponentLink1URL: http://www.we-online.com; ComponentLink2Description: Datasheet; ComponentLink2URL: http://www.we-online.de/katalog/media/pdf/744770215.pdf
footprint WE-PD-XL (SMD Inductor, 2-Leads, Body 12.0x12.0x8.0 mm)
pins: 1, 2

## 744770218
designator L?
SMD-Shielded Power Inductor WE-PD, L = 180 µH; Inductance: 180 µH; DatasheetVersion: ver 5, Oct-2004; PackageVersion: 2004; PackageReference: WE-PD-XL; PackageDescription: SMD Inductor, 2-Leads, Body 12.0 x 12.0 mm; ComponentLink1Description: Manufacturer URL; ComponentLink1URL: http://www.we-online.com; ComponentLink2Description: Datasheet; ComponentLink2URL: http://www.we-online.de/katalog/media/pdf/744770218.pdf
footprint WE-PD-XL (SMD Inductor, 2-Leads, Body 12.0x12.0x8.0 mm)
pins: 1, 2

## 744770222
designator L?
SMD-Shielded Power Inductor WE-PD, L = 220 µH; Inductance: 220 µH; DatasheetVersion: ver 5, Oct-2004; PackageVersion: 2004; PackageReference: WE-PD-XL; PackageDescription: SMD Inductor, 2-Leads, Body 12.0 x 12.0 mm; ComponentLink1Description: Manufacturer URL; ComponentLink1URL: http://www.we-online.com; ComponentLink2Description: Datasheet; ComponentLink2URL: http://www.we-online.de/katalog/media/pdf/744770222.pdf
footprint WE-PD-XL (SMD Inductor, 2-Leads, Body 12.0x12.0x8.0 mm)
pins: 1, 2

## 744770233
designator L?
SMD-Shielded Power Inductor WE-PD, L = 330 µH; Inductance: 330 µH; DatasheetVersion: ver 5, Oct-2004; PackageVersion: 2004; PackageReference: WE-PD-XL; PackageDescription: SMD Inductor, 2-Leads, Body 12.0 x 12.0 mm; ComponentLink1Description: Manufacturer URL; ComponentLink1URL: http://www.we-online.com; ComponentLink2Description: Datasheet; ComponentLink2URL: http://www.we-online.de/katalog/media/pdf/744770233.pdf
footprint WE-PD-XL (SMD Inductor, 2-Leads, Body 12.0x12.0x8.0 mm)
pins: 1, 2

## 744770247
designator L?
SMD-Shielded Power Inductor WE-PD, L = 470 µH; Inductance: 470 µH; DatasheetVersion: ver 5, Oct-2004; PackageVersion: 2004; PackageReference: WE-PD-XL; PackageDescription: SMD Inductor, 2-Leads, Body 12.0 x 12.0 mm; ComponentLink1Description: Manufacturer URL; ComponentLink1URL: http://www.we-online.com; ComponentLink2Description: Datasheet; ComponentLink2URL: http://www.we-online.de/katalog/media/pdf/744770247.pdf
footprint WE-PD-XL (SMD Inductor, 2-Leads, Body 12.0x12.0x8.0 mm)
pins: 1, 2

## 744770256
designator L?
SMD-Shielded Power Inductor WE-PD, L = 560 µH; Inductance: 560 µH; DatasheetVersion: ver 5, Oct-2004; PackageVersion: 2004; PackageReference: WE-PD-XL; PackageDescription: SMD Inductor, 2-Leads, Body 12.0 x 12.0 mm; ComponentLink1Description: Manufacturer URL; ComponentLink1URL: http://www.we-online.com; ComponentLink2Description: Datasheet; ComponentLink2URL: http://www.we-online.de/katalog/media/pdf/744770256.pdf
footprint WE-PD-XL (SMD Inductor, 2-Leads, Body 12.0x12.0x8.0 mm)
pins: 1, 2

## 744770268
designator L?
SMD-Shielded Power Inductor WE-PD, L = 680 µH; Inductance: 680 µH; DatasheetVersion: ver 5, Oct-2004; PackageVersion: 2004; PackageReference: WE-PD-XL; PackageDescription: SMD Inductor, 2-Leads, Body 12.0 x 12.0 mm; ComponentLink1Description: Manufacturer URL; ComponentLink1URL: http://www.we-online.com; ComponentLink2Description: Datasheet; ComponentLink2URL: http://www.we-online.de/katalog/media/pdf/744770268.pdf
footprint WE-PD-XL (SMD Inductor, 2-Leads, Body 12.0x12.0x8.0 mm)
pins: 1, 2

## 744770282
designator L?
SMD-Shielded Power Inductor WE-PD, L = 820 µH; Inductance: 820 µH; DatasheetVersion: ver 5, Oct-2004; PackageVersion: 2004; PackageReference: WE-PD-XL; PackageDescription: SMD Inductor, 2-Leads, Body 12.0 x 12.0 mm; ComponentLink1Description: Manufacturer URL; ComponentLink1URL: http://www.we-online.com; ComponentLink2Description: Datasheet; ComponentLink2URL: http://www.we-online.de/katalog/media/pdf/744770282.pdf
footprint WE-PD-XL (SMD Inductor, 2-Leads, Body 12.0x12.0x8.0 mm)
pins: 1, 2

## 744771001
designator L?
SMD-Shielded Power Inductor WE-PD, L = 1.50 µH; Inductance: 1.50 µH; DatasheetVersion: ver 7, Sep-2006; PackageVersion: 2006; PackageReference: WE-PD-L; PackageDescription: SMD Inductor, 2-Leads, Body 12.0 x 12.0 mm; ComponentLink1Description: Manufacturer URL; ComponentLink1URL: http://www.we-online.com; ComponentLink2Description: Datasheet; ComponentLink2URL: http://www.we-online.de/katalog/media/pdf/744771001.pdf
footprint WE-PD-L (SMD Inductor, 2-Leads, Body 12.0x12.0x6.0 mm)
pins: 1, 2

## 744771002
designator L?
SMD-Shielded Power Inductor WE-PD, L = 2.20 µH; Inductance: 2.20 µH; DatasheetVersion: ver 7, Sep-2006; PackageVersion: 2006; PackageReference: WE-PD-L; PackageDescription: SMD Inductor, 2-Leads, Body 12.0 x 12.0 mm; ComponentLink1Description: Manufacturer URL; ComponentLink1URL: http://www.we-online.com; ComponentLink2Description: Datasheet; ComponentLink2URL: http://www.we-online.de/katalog/media/pdf/744771002.pdf
footprint WE-PD-L (SMD Inductor, 2-Leads, Body 12.0x12.0x6.0 mm)
pins: 1, 2

## 744771003
designator L?
SMD-Shielded Power Inductor WE-PD, L = 3.50 µH; Inductance: 3.50 µH; DatasheetVersion: ver 7, Sep-2006; PackageVersion: 2006; PackageReference: WE-PD-L; PackageDescription: SMD Inductor, 2-Leads, Body 12.0 x 12.0 mm; ComponentLink1Description: Manufacturer URL; ComponentLink1URL: http://www.we-online.com; ComponentLink2Description: Datasheet; ComponentLink2URL: http://www.we-online.de/katalog/media/pdf/744771003.pdf
footprint WE-PD-L (SMD Inductor, 2-Leads, Body 12.0x12.0x6.0 mm)
pins: 1, 2

## 744771004
designator L?
SMD-Shielded Power Inductor WE-PD, L = 4.70 µH; Inductance: 4.70 µH; DatasheetVersion: ver 7, Sep-2006; PackageVersion: 2006; PackageReference: WE-PD-L; PackageDescription: SMD Inductor, 2-Leads, Body 12.0 x 12.0 mm; ComponentLink1Description: Manufacturer URL; ComponentLink1URL: http://www.we-online.com; ComponentLink2Description: Datasheet; ComponentLink2URL: http://www.we-online.de/katalog/media/pdf/744771004.pdf
footprint WE-PD-L (SMD Inductor, 2-Leads, Body 12.0x12.0x6.0 mm)
pins: 1, 2

## 744771006
designator L?
SMD-Shielded Power Inductor WE-PD, L = 6.80 µH; Inductance: 6.80 µH; DatasheetVersion: ver 2, May-2009; PackageVersion: 2006; PackageReference: WE-PD-L; PackageDescription: SMD Inductor, 2-Leads, Body 12.0 x 12.0 mm; ComponentLink1Description: Manufacturer URL; ComponentLink1URL: http://www.we-online.com; ComponentLink2Description: Datasheet; ComponentLink2URL: http://www.we-online.de/katalog/media/pdf/744771006.pdf
footprint WE-PD-L (SMD Inductor, 2-Leads, Body 12.0x12.0x6.0 mm)
pins: 1, 2

## 744771008
designator L?
SMD-Shielded Power Inductor WE-PD, L = 8.20 µH; Inductance: 8.20 µH; DatasheetVersion: ver 7, Sep-2006; PackageVersion: 2006; PackageReference: WE-PD-L; PackageDescription: SMD Inductor, 2-Leads, Body 12.0 x 12.0 mm; ComponentLink1Description: Manufacturer URL; ComponentLink1URL: http://www.we-online.com; ComponentLink2Description: Datasheet; ComponentLink2URL: http://www.we-online.de/katalog/media/pdf/744771008.pdf
footprint WE-PD-L (SMD Inductor, 2-Leads, Body 12.0x12.0x6.0 mm)
pins: 1, 2

## 744771112
designator L?
SMD-Shielded Power Inductor WE-PD, L = 12.0 µH; Inductance: 12.0 µH; DatasheetVersion: ver 6, Jun-2005; PackageVersion: 2006; PackageReference: WE-PD-L; PackageDescription: SMD Inductor, 2-Leads, Body 12.0 x 12.0 mm; ComponentLink1Description: Manufacturer URL; ComponentLink1URL: http://www.we-online.com; ComponentLink2Description: Datasheet; ComponentLink2URL: http://www.we-online.de/katalog/media/pdf/744771112.pdf
footprint WE-PD-L (SMD Inductor, 2-Leads, Body 12.0x12.0x6.0 mm)
pins: 1, 2

## 744771115
designator L?
SMD-Shielded Power Inductor WE-PD, L = 15.0 µH; Inductance: 15.0 µH; DatasheetVersion: ver 6, Jun-2005; PackageVersion: 2006; PackageReference: WE-PD-L; PackageDescription: SMD Inductor, 2-Leads, Body 12.0 x 12.0 mm; ComponentLink1Description: Manufacturer URL; ComponentLink1URL: http://www.we-online.com; ComponentLink2Description: Datasheet; ComponentLink2URL: http://www.we-online.de/katalog/media/pdf/744771115.pdf
footprint WE-PD-L (SMD Inductor, 2-Leads, Body 12.0x12.0x6.0 mm)
pins: 1, 2

## 744771118
designator L?
SMD-Shielded Power Inductor WE-PD, L = 18.0 µH; Inductance: 18.0 µH; DatasheetVersion: ver 6, Jun-2005; PackageVersion: 2006; PackageReference: WE-PD-L; PackageDescription: SMD Inductor, 2-Leads, Body 12.0 x 12.0 mm; ComponentLink1Description: Manufacturer URL; ComponentLink1URL: http://www.we-online.com; ComponentLink2Description: Datasheet; ComponentLink2URL: http://www.we-online.de/katalog/media/pdf/744771118.pdf
footprint WE-PD-L (SMD Inductor, 2-Leads, Body 12.0x12.0x6.0 mm)
pins: 1, 2

## 744771122
designator L?
SMD-Shielded Power Inductor WE-PD, L = 22.0 µH; Inductance: 22.0 µH; DatasheetVersion: ver 6, Jun-2005; PackageVersion: 2006; PackageReference: WE-PD-L; PackageDescription: SMD Inductor, 2-Leads, Body 12.0 x 12.0 mm; ComponentLink1Description: Manufacturer URL; ComponentLink1URL: http://www.we-online.com; ComponentLink2Description: Datasheet; ComponentLink2URL: http://www.we-online.de/katalog/media/pdf/744771122.pdf
footprint WE-PD-L (SMD Inductor, 2-Leads, Body 12.0x12.0x6.0 mm)
pins: 1, 2

## 744771127
designator L?
SMD-Shielded Power Inductor WE-PD, L = 27.0 µH; Inductance: 27.0 µH; DatasheetVersion: ver 6, Jun-2005; PackageVersion: 2006; PackageReference: WE-PD-L; PackageDescription: SMD Inductor, 2-Leads, Body 12.0 x 12.0 mm; ComponentLink1Description: Manufacturer URL; ComponentLink1URL: http://www.we-online.com; ComponentLink2Description: Datasheet; ComponentLink2URL: http://www.we-online.de/katalog/media/pdf/744771127.pdf
footprint WE-PD-L (SMD Inductor, 2-Leads, Body 12.0x12.0x6.0 mm)
pins: 1, 2

## 744771133
designator L?
SMD-Shielded Power Inductor WE-PD, L = 33.0 µH; Inductance: 33.0 µH; DatasheetVersion: ver 6, Jun-2005; PackageVersion: 2006; PackageReference: WE-PD-L; PackageDescription: SMD Inductor, 2-Leads, Body 12.0 x 12.0 mm; ComponentLink1Description: Manufacturer URL; ComponentLink1URL: http://www.we-online.com; ComponentLink2Description: Datasheet; ComponentLink2URL: http://www.we-online.de/katalog/media/pdf/744771133.pdf
footprint WE-PD-L (SMD Inductor, 2-Leads, Body 12.0x12.0x6.0 mm)
pins: 1, 2

## 744771139
designator L?
SMD-Shielded Power Inductor WE-PD, L = 39.0 µH; Inductance: 39.0 µH; DatasheetVersion: ver 6, Jun-2005; PackageVersion: 2006; PackageReference: WE-PD-L; PackageDescription: SMD Inductor, 2-Leads, Body 12.0 x 12.0 mm; ComponentLink1Description: Manufacturer URL; ComponentLink1URL: http://www.we-online.com; ComponentLink2Description: Datasheet; ComponentLink2URL: http://www.we-online.de/katalog/media/pdf/744771139.pdf
footprint WE-PD-L (SMD Inductor, 2-Leads, Body 12.0x12.0x6.0 mm)
pins: 1, 2